# Altium integrated library TPS62162DSGR.IntLib: 1 symbol
Pins are listed as number, name and electrical type; pins without a type are passive.

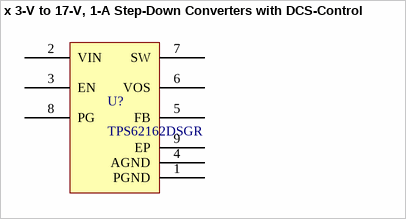
[diagram p0: symbol x 3-V to 17-V, 1-A Step-Down Converters with DCS-Control]

## x 3-V to 17-V, 1-A Step-Down Converters with DCS-Control
designator U?, comment TPS62162DSGR
x 3-V to 17-V, 1-A Step-Down Converters with DCS-Control, TI
footprint TPS62162DSGR
pins: 1 PGND, 2 VIN, 3 EN, 4 AGND, 5 FB, 6 VOS, 7 SW, 8 PG, 9 EP